# Altium schematic symbol library Connectors Through Hole.SchLib: 15 symbols
Pins are listed as number, name and electrical type; pins without a type are passive.

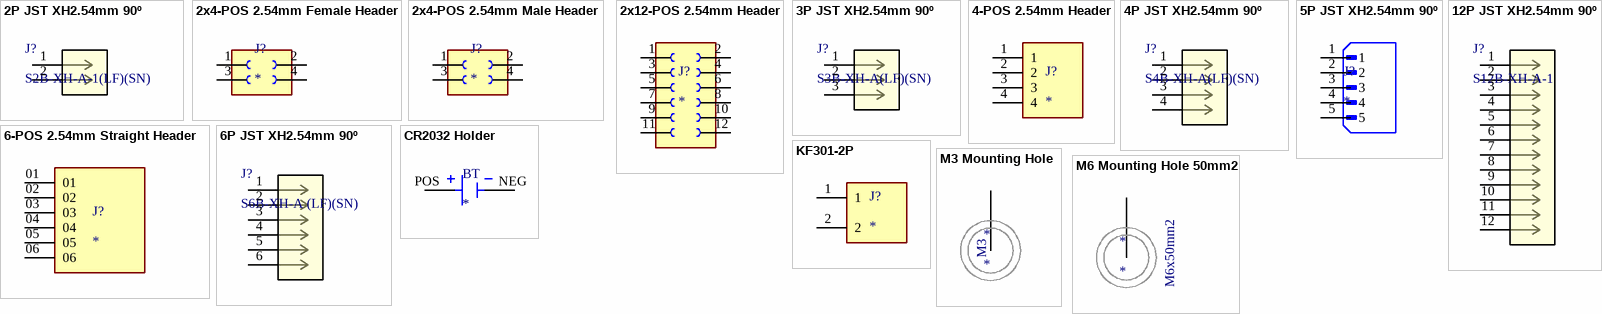
[diagram p0: symbols 2P JST XH2.54mm 90º to M6 Mounting Hole 50mm2]

## 2P JST XH2.54mm 90º
designator J?, comment S2B-XH-A-1(LF)(SN)
No Description Available; Mfr_Name: JST; Copyright: Copyright (C) 2024 Ultra Librarian. All rights reserved.; Manufacturer_Part_Number: S2B-XH-A-1(LF)(SN); RefDes: RefDes; Type: DEV
footprint 2P JST XH2.54mm 90º
pins: 1, 2

## 2x4-POS 2.54mm Female Header
designator J?
MF: WÃ¼rth Elektronik; MP: 613004243121; SnapEDA_Link: https://www.snapeda.com/parts/613004243121/W%C3%BCrth%20Elektronik/view-part/1737074/?ref=snap; Check_prices: https://www.snapeda.com/parts/613004243121/W%C3%BCrth%20Elektronik/view-part/1737074/?ref=eda; Availability: Unavailable; Value: *; Price: None; Package: None
footprint 2x4-POS 2.54mm Female Header
pins: 1, 2 4, 3 2, 4 3

## 2x4-POS 2.54mm Male Header
designator J?
MF: WÃ¼rth Elektronik; MP: 613004243121; SnapEDA_Link: https://www.snapeda.com/parts/613004243121/W%C3%BCrth%20Elektronik/view-part/1737074/?ref=snap; Check_prices: https://www.snapeda.com/parts/613004243121/W%C3%BCrth%20Elektronik/view-part/1737074/?ref=eda; Availability: Unavailable; Value: *; Price: None; Package: None
footprint 2x4-POS 2.54mm Male Header
pins: 1, 2 4, 3 2, 4 3

## 2x12-POS 2.54mm Header
designator J?
Headers & Wire Housings WR-PHD 2.54 mm Socket Header; MP: 613012243121; MF: Wurth Elektronik; Purchase-URL: https://pricing.snapeda.com/search/part/613012243121/?ref=eda; Value: *; Availability: In Stock; Check_prices: https://www.snapeda.com/parts/613012243121/Wurth+Elektronik/view-part/?ref=eda; SnapEDA_Link: https://www.snapeda.com/parts/613012243121/Wurth+Elektronik/view-part/?ref=snap; Price: None; Package: None
footprint 2x12-POS 2.54mm Header
pins: 1, 2 12, 3 2, 4 11, 5 3, 6 10, 7 4, 8 9, 9 5, 10 8, 11 6, 12 7

## 3P JST XH2.54mm 90º
designator J?, comment S3B-XH-A(LF)(SN)
No Description Available; Mfr_Name: JST; Copyright: Copyright (C) 2024 Ultra Librarian. All rights reserved.; Manufacturer_Part_Number: S3B-XH-A(LF)(SN); RefDes: RefDes; Type: DEV
footprint 3P JST XH2.54mm 90º
pins: 1, 2, 3

## 4-POS 2.54mm Header
designator J?
MP: 5-146290-4; Package: None; Price: None; Value: *; Availability: Unavailable
footprint 4-POS 2.54mm Header
pins: 1, 2, 3, 4

## 4P JST XH2.54mm 90º
designator J?, comment S4B-XH-A(LF)(SN)
No Description Available; Mfr_Name: JST; Copyright: Copyright (C) 2024 Ultra Librarian. All rights reserved.; Manufacturer_Part_Number: S4B-XH-A(LF)(SN); RefDes: RefDes; Type: DEV
footprint 4P JST XH2.54mm 90º
pins: 1, 2, 3, 4

## 5P JST XH2.54mm 90º
designator J?
Connector Header Through Hole, Right Angle 5 position 0.098 (2.50mm); MF: JST Sales; MP: S5B-XH-A; SnapEDA_Link: https://www.snapeda.com/parts/S5B-XH-A/JST+Sales+America+Inc./view-part/?ref=snap; Package: None; Value: *; Check_prices: https://www.snapeda.com/parts/S5B-XH-A/JST+Sales+America+Inc./view-part/?ref=eda
footprint 5P JST XH2.54mm 90º
pins: 1, 2, 3, 4, 5

## 6-POS 2.54mm Straight Header
designator J?
HEADER, 6 CONTACTS, 1 ROW, THROUGH HOLE, 2.54 MM; Connector Systems:Board-to-Board; Pitch Spacing:2.54mm; No. of Rows:1Rows; No. of Contacts:6Contacts; Contact Termination Type:Through Hole Right Angle; Product Range:HTSW Series RoHS Compliant: Yes; MP: HTSW10608SSLA; MF: Samtec; Purchase-URL: https://pricing.snapeda.com/search/part/HTSW10608SSLA/?ref=eda; Package: None; Check_prices: https://www.snapeda.com/parts/HTSW10608SSLA/Samtec/view-part/?ref=eda; Price: None; SnapEDA_Link: https://www.snapeda.com/parts/HTSW10608SSLA/Samtec/view-part/?ref=snap; Availability: In Stock; Value: *
footprint 6-POS 2.54mm Header
pins: 01, 02, 03, 04, 05, 06

## 6P JST XH2.54mm 90º
designator J?, comment S6B-XH-A (LF)(SN)
No Description Available; Mfr_Name: JST; Copyright: Copyright (C) 2024 Ultra Librarian. All rights reserved.; Manufacturer_Part_Number: S6B-XH-A (LF)(SN); Digi-Key_Part_Number_1: 455-2236-ND; RefDes: RefDes; Type: DEV
footprint 6P JST XH2.54mm 90º
pins: 1, 2, 3, 4, 5, 6

## 12P JST XH2.54mm 90º
designator J?, comment S12B-XH-A-1
No Description Available; Mfr_Name: JST; Copyright: Copyright (C) 2024 Ultra Librarian. All rights reserved.; Manufacturer_Part_Number: S12B-XH-A-1; RefDes: RefDes; Type: DEV
footprint 12P JST XH2.54mm 90º
pins: 1, 2, 3, 4, 5, 6, 7, 8, 9, 10, 11, 12

## CR2032 Holder
designator BT
MP: BH600; MF: MPD; SnapEDA_Link: https://www.snapeda.com/parts/BH600/Memory%20Protection%20Devices/view-part/4219614/?ref=snap; Availability: Unavailable; Value: *; Price: None; Package: Battery Holder MPD
footprint 2032_Holder
pins: NEG, POS

## KF301-2P
designator J?
2 Pin Terminal Block 5mm Pitch; MP: KF301-2P; Price: None; Value: *; Package: None; Availability: Unavailable
footprint KF301-2P
pins: 1, 2

## M3 Mounting Hole
designator *
footprint M3 - Mounting Hole
pins: 1 M3

## M6 Mounting Hole 50mm2
designator *
footprint M6 - Mounting Hole 50mm2
pins: 1 M3
text: M6x50mm2